# Altium integrated library TC118S.IntLib: 1 symbol
Pins are listed as number, name and electrical type; pins without a type are passive.

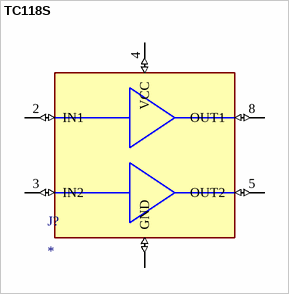
[diagram p0: symbol TC118S]

## TC118S
designator J?
MF: shenzhen fuman electronics co., ltd.; MP: TC118S; Price: None; Package: None; Check_prices: https://www.snapeda.com/parts/TC118S/FUMAN+ELECTRONICS/view-part/?ref=eda; Availability: Not in stock; Value: *; SnapEDA_Link: https://www.snapeda.com/parts/TC118S/FUMAN+ELECTRONICS/view-part/?ref=snap
footprint SO08
pins: 2 IN1 (io), 3 IN2 (io), 4 VCC (io), 5 OUT2 (io), 6 GND (io), 7 GND (io), 8 OUT1 (io)